# EAGLE library part MICROSD (library DCEM-microSD)
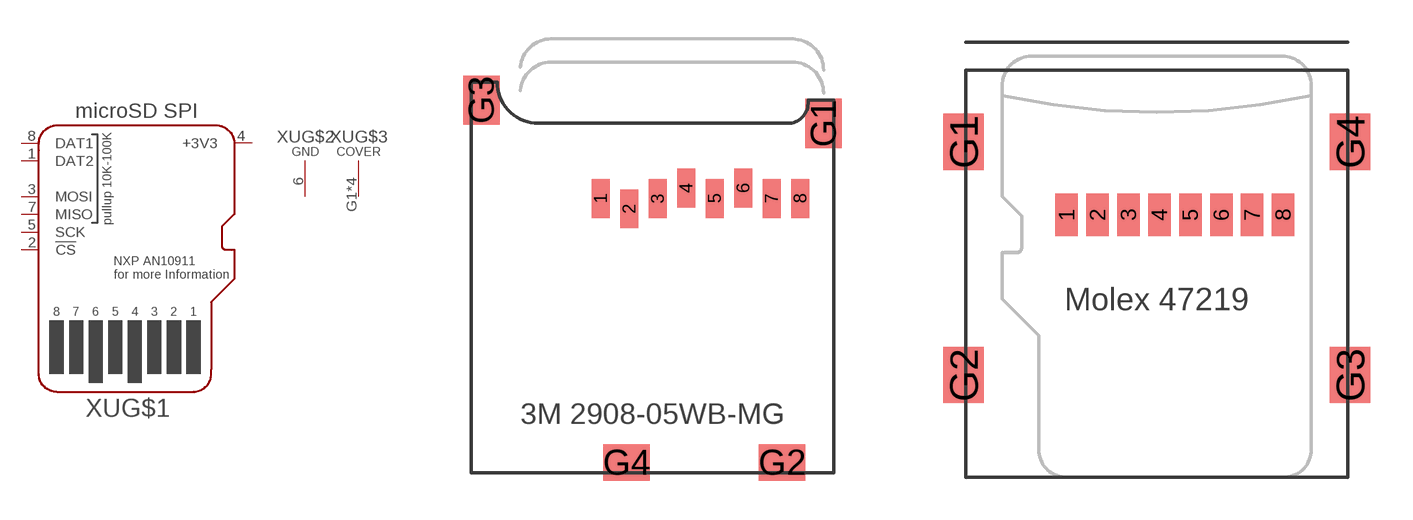
[diagram p1: symbol with the pads of MICROSD_3M_2908; footprints MICROSD_3M_2908, MICROSD_MOLEX_47219]

Designator prefix XU; gates G$1=MICROSD G$2=PWR_GND G$3=COVER

## MICROSD3M_2908  [MICROSD_3M_2908]
1  G$1:DAT2
2  G$1:!CS  in
3  G$1:MOSI  in
4  G$1:+3V3  pwr
5  G$1:SCK  in
6  G$2:GND  pwr
7  G$1:MISO  out
8  G$1:DAT1
G1  G$3:GND  pwr
G2  G$3:GND  pwr
G3  G$3:GND  pwr
G4  G$3:GND  pwr

## MICROSDMOLEX_47219  [MICROSD_MOLEX_47219]
Pads as for MICROSD_3M_2908

## Footprint MICROSD_3M_2908 (pad centres in mm)
smd 0.7 x 1.5: 1 -2,-5.26; 2 -0.9,-5.66; 3 0.2,-5.26; 4 1.3,-4.86; 5 2.4,-5.26; 6 3.5,-4.86; 7 4.6,-5.26; 8 5.7,-5.26
smd 1.4 x 1.9: G1 6.6,-2.36; G3 -6.6,-1.46
smd 1.8 x 1.4: G2 5,-15.46; G4 -1,-15.46

## Footprint MICROSD_MOLEX_47219 (pad centres in mm)
smd 0.8 x 1.5: 1 -3.205,2.1; 2 -2.105,2.1; 3 -1.005,2.1; 4 0.095,2.1; 5 1.195,2.1; 6 2.295,2.1; 7 3.395,2.1; 8 4.495,2.1
smd 1.45 x 2: G1 -6.875,4.7; G2 -6.875,-3.6; G3 6.875,-3.6; G4 6.875,4.7